# Altium schematic symbol library SN74AHC1G86DBVR.SchLib: 2 symbols
Pins are listed as number, name and electrical type; pins without a type are passive.

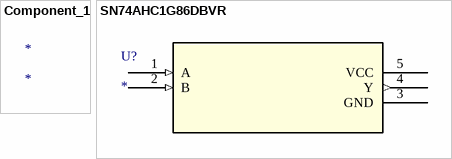
[diagram p0: symbols Component_1 to SN74AHC1G86DBVR]

## Component_1
designator *

## SN74AHC1G86DBVR
designator U?
No Description Available; Mfr_Name: Texas Instruments; RefDes: RefDes; Type: Type
footprint DBV5
pins: 1 A (in), 2 B (in), 3 GND (power), 4 Y (out), 5 VCC (power)